# EAGLE library part SGM8252 (library prj_snowmaker)
SGM8582 Single-Supply, Dual Rail-to-Rail I/O Precision Operational Amplifier FEATURES  Low Offset Voltage: 25μV (TYP)  Rail-to-Rail Input and Output Swing  2.5V to 5.5V Single Supply Operation  Voltage Gain: 145dB (TYP) at +5V  PSRR: 125dB (TYP)  CMRR: 95dB (TYP)  Ultra Low Input Bias Current: 15pA  Low Supply Current: 430μA/Channel  Overload Recovery Time: 70μs (at VS = +5V)  No External Capacitors Required  -40℃ to +125℃ Operating Temperature Range  Available in Green SOIC-8 and MSOP-8 Packages
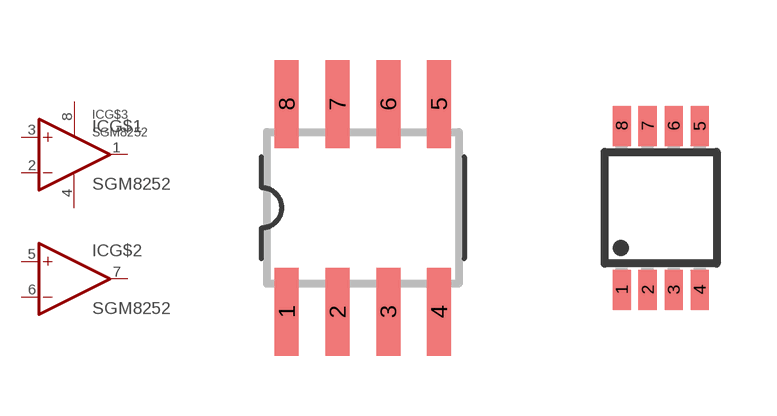
[diagram p8: symbol with the pads of SOIC-8; footprints SOIC-8, MSOP8]

Designator prefix IC; gates G$1=OPAMP G$2=OPAMP G$3=PWR+-

## SGM8252XS8G/TR  [SOIC-8]
1  G$1:OUT  out
2  G$1:-IN  in
3  G$1:+IN  in
4  G$3:V-  pwr
5  G$2:+IN  in
6  G$2:-IN  in
7  G$2:OUT  out
8  G$3:V+  pwr

## SGM8252XMS8G/TR  [MSOP8]
Pads as for SOIC-8

## Footprint SOIC-8 (pad centres in mm)
Small Outline IC
smd 0.6 x 2.2: 1 -1.905,-2.6; 2 -0.635,-2.6; 3 0.635,-2.6; 4 1.905,-2.6; 5 1.905,2.6; 6 0.635,2.6; 7 -0.635,2.6; 8 -1.905,2.6

## Footprint MSOP8 (pad centres in mm)
Micro Small Outline Package Grid .65mm
smd 0.45 x 1: 1 -0.975,-2.05; 2 -0.325,-2.05; 3 0.325,-2.05; 4 0.975,-2.05; 5 0.975,2.05; 6 0.325,2.05; 7 -0.325,2.05; 8 -0.975,2.05